# EAGLE library part AT45DB161D-S (library memory-atmel)
FLASH MEMORY DataFlash, 16-megabit, 2.5-volt or 2.7-volt
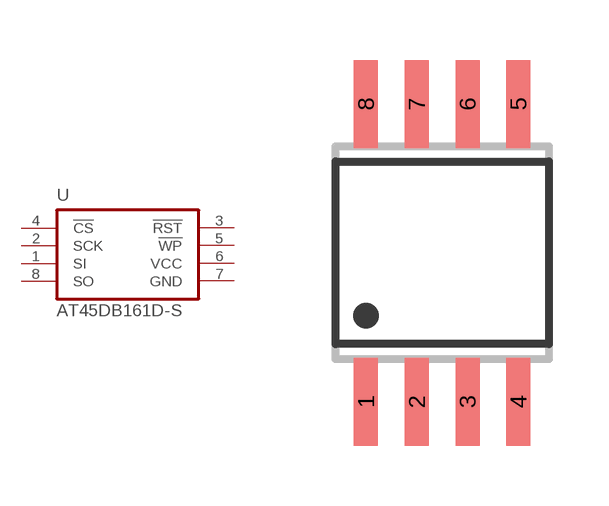
[diagram p8: symbol with the pads of SO08-8S2; footprint SO08-8S2]

Designator prefix U

## AT45DB161D-S  [SO08-8S2]
1  SI
2  SCK
3  !RST!
4  !CS!
5  !WP!
6  VCC  pwr
7  GND  pwr
8  SO

## Footprint SO08-8S2 (pad centres in mm)
SMALL OUTLINE INTEGRATED CIRCUIT 8S2 Package (EIAJ), 5.4 mm body
smd 0.6 x 2.2: 1 -1.905,-3.725; 2 -0.635,-3.725; 3 0.635,-3.725; 4 1.905,-3.725; 5 1.905,3.725; 6 0.635,3.725; 7 -0.635,3.725; 8 -1.905,3.725